# EAGLE library part PLC_STAMP_1200_MICRO (library plc_stamp_1200_micro)
I2SE PLC Stamp 1200 micro Ordercode: I2PLCCMC-CXL-001
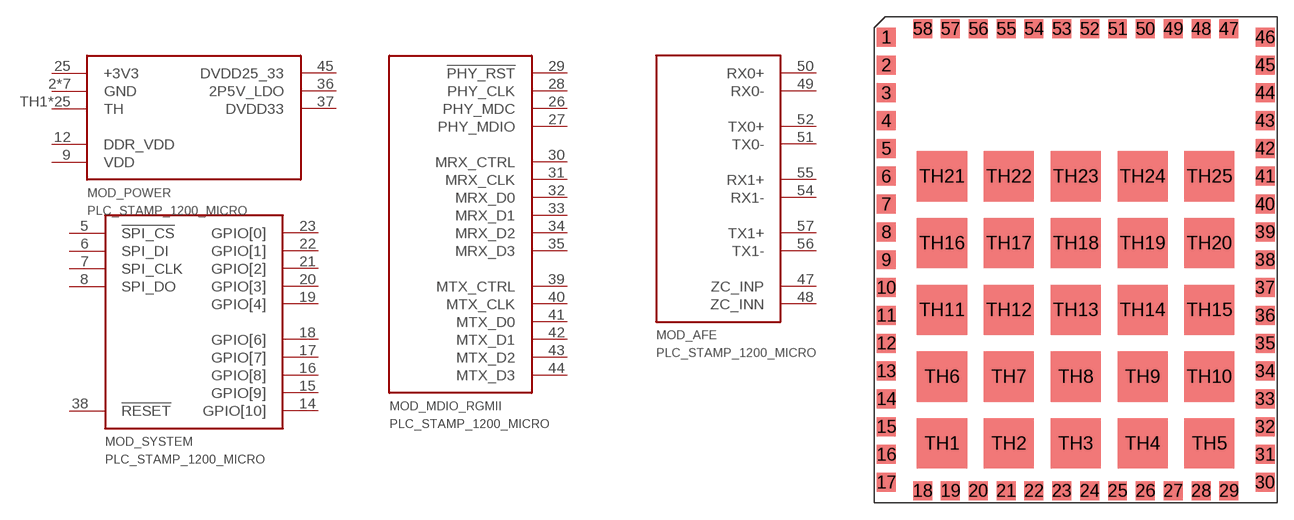
[diagram p0: symbol with the pads of PLC_STAMP_1200_MICRO; footprint PLC_STAMP_1200_MICRO]

Designator prefix MOD; gates _AFE=PLC_STAMP_1200_MICRO_AFE _MDIO_RGMII=PLC_STAMP_1200_MICRO_MDIO_RGMII _POWER=PLC_STAMP_1200_MICRO_POWER _SYSTEM=PLC_STAMP_1200_SYSTEM

## PLC_STAMP_1200_MICRO  [PLC_STAMP_1200_MICRO]
2  _POWER:GND  pwr
3  _POWER:GND  pwr
4  _POWER:GND  pwr
5  _SYSTEM:!SPI_CS
6  _SYSTEM:SPI_DI
7  _SYSTEM:SPI_CLK
8  _SYSTEM:SPI_DO
9  _POWER:VDD  pwr
10  _POWER:GND  pwr
11  _POWER:GND  pwr
12  _POWER:DDR_VDD  pwr
13  _POWER:GND  pwr
14  _SYSTEM:GPIO[10]
15  _SYSTEM:GPIO[9]
16  _SYSTEM:GPIO[8]
17  _SYSTEM:GPIO[7]
18  _SYSTEM:GPIO[6]
19  _SYSTEM:GPIO[4]
20  _SYSTEM:GPIO[3]
21  _SYSTEM:GPIO[2]
22  _SYSTEM:GPIO[1]
23  _SYSTEM:GPIO[0]
24  _POWER:GND  pwr
25  _POWER:+3V3  pwr
26  _MDIO_RGMII:PHY_MDC
27  _MDIO_RGMII:PHY_MDIO
28  _MDIO_RGMII:PHY_CLK  out
29  _MDIO_RGMII:!PHY_RST
30  _MDIO_RGMII:MRX_CTRL  in
31  _MDIO_RGMII:MRX_CLK  in
32  _MDIO_RGMII:MRX_D0  in
33  _MDIO_RGMII:MRX_D1  in
34  _MDIO_RGMII:MRX_D2  in
35  _MDIO_RGMII:MRX_D3  in
36  _POWER:2P5V_LDO  sup
37  _POWER:DVDD33  sup
38  _SYSTEM:!RESET  in
39  _MDIO_RGMII:MTX_CTRL  out
40  _MDIO_RGMII:MTX_CLK  out
41  _MDIO_RGMII:MTX_D0  out
42  _MDIO_RGMII:MTX_D1  out
43  _MDIO_RGMII:MTX_D2  out
44  _MDIO_RGMII:MTX_D3  out
45  _POWER:DVDD25_33  pwr
47  _AFE:ZC_INP  in
48  _AFE:ZC_INN  in
49  _AFE:RX0-  in
50  _AFE:RX0+  in
51  _AFE:TX0-  out
52  _AFE:TX0+  out
54  _AFE:RX1-  in
55  _AFE:RX1+  in
56  _AFE:TX1-  out
57  _AFE:TX1+  out
TH1  _POWER:TH  pwr
TH2  _POWER:TH  pwr
TH3  _POWER:TH  pwr
TH4  _POWER:TH  pwr
TH5  _POWER:TH  pwr
TH6  _POWER:TH  pwr
TH7  _POWER:TH  pwr
TH8  _POWER:TH  pwr
TH9  _POWER:TH  pwr
TH10  _POWER:TH  pwr
TH11  _POWER:TH  pwr
TH12  _POWER:TH  pwr
TH13  _POWER:TH  pwr
TH14  _POWER:TH  pwr
TH15  _POWER:TH  pwr
TH16  _POWER:TH  pwr
TH17  _POWER:TH  pwr
TH18  _POWER:TH  pwr
TH19  _POWER:TH  pwr
TH20  _POWER:TH  pwr
TH21  _POWER:TH  pwr
TH22  _POWER:TH  pwr
TH23  _POWER:TH  pwr
TH24  _POWER:TH  pwr
TH25  _POWER:TH  pwr

## Footprint PLC_STAMP_1200_MICRO (pad centres in mm)
PLC Stamp 1200 Micro
smd 1.7 x 1.7: 1 -17,20; 2 -17,17.5; 3 -17,15; 4 -17,12.5; 5 -17,10; 6 -17,7.5; 7 -17,5; 8 -17,2.5; 9 -17,0; 10 -17,-2.5; 11 -17,-5; 12 -17,-7.5; 13 -17,-10; 14 -17,-12.5; 15 -17,-15; 16 -17,-17.5; 17 -17,-20; 18 -13.75,-20.75; 19 -11.25,-20.75; 20 -8.75,-20.75; 21 -6.25,-20.75; 22 -3.75,-20.75; 23 -1.25,-20.75; 24 1.25,-20.75; 25 3.75,-20.75; 26 6.25,-20.75; 27 8.75,-20.75; 28 11.25,-20.75; 29 13.75,-20.75; 30 17,-20; 31 17,-17.5; 32 17,-15; 33 17,-12.5; 34 17,-10; 35 17,-7.5; 36 17,-5; 37 17,-2.5; 38 17,0; 39 17,2.5; 40 17,5; 41 17,7.5; 42 17,10; 43 17,12.5; 44 17,15; 45 17,17.5; 46 17,20; 47 13.75,20.75; 48 11.25,20.75; 49 8.75,20.75; 50 6.25,20.75; 51 3.75,20.75; 52 1.25,20.75; 53 -1.25,20.75; 54 -3.75,20.75; 55 -6.25,20.75; 56 -8.75,20.75; 57 -11.25,20.75; 58 -13.75,20.75
smd 4.5 x 4.5: TH1 -12,-16.5; TH2 -6,-16.5; TH3 0,-16.5; TH4 6,-16.5; TH5 12,-16.5; TH6 -12,-10.5; TH7 -6,-10.5; TH8 0,-10.5; TH9 6,-10.5; TH10 12,-10.5; TH11 -12,-4.5; TH12 -6,-4.5; TH13 0,-4.5; TH14 6,-4.5; TH15 12,-4.5; TH16 -12,1.5; TH17 -6,1.5; TH18 0,1.5; TH19 6,1.5; TH20 12,1.5; TH21 -12,7.5; TH22 -6,7.5; TH23 0,7.5; TH24 6,7.5; TH25 12,7.5